# Altium schematic symbol library Capacitor.SchLib: 190 symbols (part 1 of 2)
Pins are listed as number, name and electrical type; pins without a type are passive.

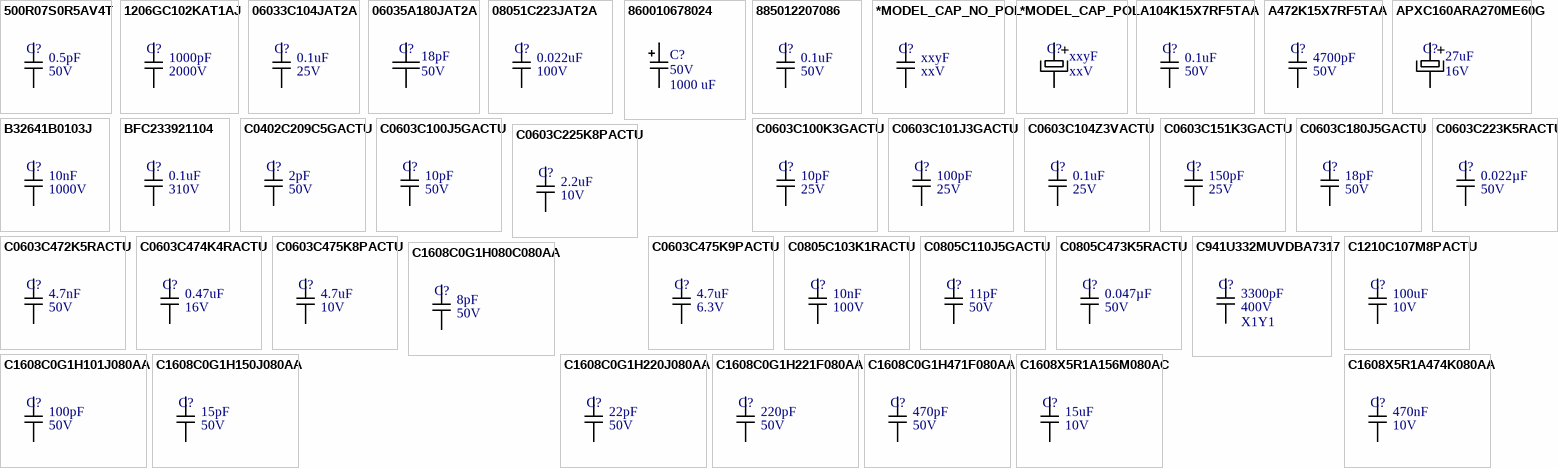
[diagram p0: symbols 500R07S0R5AV4T to C1608X5R1A474K080AA]

## 500R07S0R5AV4T
designator C?  value 0.5pF  Voltage: 50V  (hidden comment: 500R07S0R5AV4T)
CAP CER 0.50PF 50V NP0 0402; Manufacturer: Johanson Technology Inc.; Mount Type: SMD; Category: Ceramic; Dielectric: NP0; Supplier 1: Mouser; Supplier Part Number 1: 609-500R07S0R5AV4T; Supplier 2: Farnell; Supplier Part Number 2: 1650777; Supplier 3: Digi-Key; Supplier Part Number 3: 712-1247-1-ND
footprint C0402_HD (Chip Capacitor, Body 1.0x0.5mm, IPC High Density)
pins: 1, 2

## 1206GC102KAT1AJ
designator C?  value 1000pF  Voltage: 2000V  (hidden comment: 1206GC102KAT1AJ)
CAP CER 1000PF 2KV X7R 1206; Manufacturer: AVX Corporation; Mount Type: SMD; Category: Ceramic; Dielectric: X7R; Supplier 1: Digi-Key; Supplier Part Number 1: 478-9959-1-ND
footprint C1206_MD (Chip Capacitor, Body 3.2x1.6mm, IPC Medium Density)
pins: 1, 2

## 06033C104JAT2A
designator C?  value 0.1uF  Voltage: 25V  (hidden comment: 06033C104JAT2A)
CAP CER 0.1UF 25V 5% X7R 0603; Manufacturer: AVX; Mount Type: SMD; Category: Ceramic; Dielectric: X7R; Supplier 1: Digi-Key; Supplier 2: Allied; Supplier 3: Farnell; Supplier 4: Mouser; Supplier 5: Newark; Supplier Part Number 1: 478-3713-1-ND; Supplier Part Number 2: 70001398; Supplier Part Number 3: 1740614; Supplier Part Number 4: 581-06033C104JAT2A; Supplier Part Number 5: 55J3913
footprint C0603_MD (Chip Capacitor, Body 1.6x0.8mm, IPC Medium Density)
pins: 1, 2

## 06035A180JAT2A
designator C?  value 18pF  Voltage: 50V  (hidden comment: 06035A180JAT2A)
CAP CER 18PF 50V C0G/NP0 0603; Manufacturer: AVX Corporation; Mount Type: SMD; Category: Capacitor; Supplier 1: Newark; Supplier Part Number 1: 90R7639; Supplier 2: Newark; Supplier Part Number 2: 17C6481; Supplier 3: Farnell; Supplier Part Number 3: 1710190; Supplier 4: Digi-Key; Supplier Part Number 4: 478-1166-6-ND
footprint C0603_MD (Chip Capacitor, Body 1.6x0.8mm, IPC Medium Density)
pins: +, -

## 08051C223JAT2A
designator C?  value 0.022uF  Voltage: 100V  (hidden comment: 08051C223JAT2A)
CAP CER 0.022UF 100V X7R 0805; Manufacturer: AVX Corporation; Dielectric: XR7; Mount Type: SMD; Category: Ceramic Capacitor; Supplier 1: Arrow; Supplier Part Number 1: b1YfjW63iU57WBw10Mp1pG2qehBQvfzUihEl6jb0mZQ; Supplier 2: Digi-Key; Supplier Part Number 2: 478-3747-1-ND
footprint C0805_HD (Chip Capacitor, Body 2.0x1.3mm, IPC High Density)
pins: 1, 2

## 860010678024
designator C?  value 1000 uF  Voltage: 50V  (hidden comment: 860010678024)
1000µF 50V Aluminum Capacitors Radial, Can 2000 Hrs @ 85°C; Manufacturer: Wurth Electronics Inc.; Category: Aluminum Capacitors; Supplier Part Number 1: 732-8676-3-ND; Supplier 1: Dig-Key; Supplier 2: Newark; Supplier Part Number 2: 40Y3463; Supplier 3: Farnell; Supplier Part Number 3: 2465748; Supplier 4: Digi-Key; Supplier Part Number 4: 732-8676-1-ND
footprint CAP_EL_5X10MM (Capacitor Eletrolítico PTH)
pins: + 1, - 2

## 885012207086
designator C?  value 0.1uF  Voltage: 50V  (hidden comment: 885012207086)
CAP CER 1000PF 50V X7R 0805; Manufacturer: Wurth Electronics Inc.; Mount Type: SMD; Category: Capacitor; Dielectric: X7R; Supplier 1: Digi-Key; Supplier Part Number 1: 732-8068-6-ND; Supplier 2: Farnell; Supplier Part Number 2: 2495195RL
footprint C0805_HD (Chip Capacitor, Body 2.0x1.3mm, IPC High Density)
pins: 1, 2

## *MODEL_CAP_NO_POL
designator C?, comment value xxyF  Voltage: xxV  (hidden comment: Part Number)
Description; Mount Type: *; Manufacturer: *; Category: *; Dielectric: *
pins: 1, 2

## *MODEL_CAP_POL
designator C?, comment value xxyF  Voltage: xxV  (hidden comment: Part Number)
Description; Mount Type: *; Manufacturer: *; Category: *
pins: +, -

## A104K15X7RF5TAA
designator C?  value 0.1uF  Voltage: 50V  (hidden comment: A104K15X7RF5TAA)
CAP CER 0.1UF 50V X7R AXIAL; Manufacturer: Vishay BC Components; Mount Type: PTH; Category: Ceramic Capacitors; Dielectric: X7R; Supplier 1: Newark; Supplier 2: Allied; Supplier 3: Digi-Key; Supplier Part Number 1: 95C0843; Supplier Part Number 2: 70122957; Supplier Part Number 3: 1109PHCT-ND
footprint CAP_NP_DUAL_0.1_0.2 (Capacitor PTH)
pins: 1, 2

## A472K15X7RF5TAA
designator C?  value 4700pF  Voltage: 50V  (hidden comment: A472K15X7RF5TAA)
CAP CER 4700PF 50V X7R AXIAL; Manufacturer: Vishay BC Components; Mount Type: PTH; Category: Ceramic Capacitors; Dielectric: X7R; Supplier 1: Farnell; Supplier 2: Newark; Supplier 3: Mouser; Supplier 4: Digi-Key; Supplier Part Number 1: 3321903; Supplier Part Number 2: 95C0876; Supplier Part Number 3: 594-A472K15X7RF5TAA; Supplier Part Number 4: 1102PHCT-ND
footprint CAP_CER_DISK 0.1 (Capacitor PTH)
pins: 1, 2

## APXC160ARA270ME60G
designator C?  value 27uF  Voltage: 16V  (hidden comment: APXC160ARA270ME60G)
CAP ALUM 27UF 16V 20% SMD; Manufacturer: United Chemi-Con; Mount Type: SMD; Category: Aluminum; Supplier 1: Digi-Key; Supplier 2: Mouser; Supplier Part Number 1: 565-3127-1-ND; Supplier Part Number 2: 661-PXC16VC27RM
footprint CAP_EL_SMD_C (Capacitor Eletrolítico SMD Case C)
pins: +, -

## B32641B0103J
designator C?  value 10nF  Voltage: 1000V  (hidden comment: B32641B0103J)
CAP FILM 10000PF 5% 1000VDC RAD; Manufacturer: EPCOS (TDK); Dielectric: Polypropylene (PP), Metallized; Mount Type: PTH; Category: Film Capacitors; Supplier 1: Mouser; Supplier 2: Digi-Key; Supplier Part Number 1: 871-B32641B0103J; Supplier Part Number 2: 495-7120-ND
footprint CAP_CER_NP 5mm & 10mm-square (Capacitor PTH)
pins: 1, 2

## BFC233921104
designator C?  value 0.1uF  Voltage: 310V  (hidden comment: BFC233921104)
CAP FILM 100NF 20% 310VAC RAD; Manufacturer: Vishay BC Components; Dielectric: Polypropylene (PP), Metallized; Mount Type: PTH; Category: Class X2; Supplier 1: Mouser; Supplier 2: Newark; Supplier 3: Digi-Key; Supplier Part Number 1: 594-2222-339-21104; Supplier Part Number 2: 93K9994; Supplier Part Number 3: BC3033-ND
footprint CAP_CER_NP 0.4IN-square (Capacitor PTH)
pins: 1, 2

## C0402C209C5GACTU
designator C?  value 2pF  Voltage: 50V  (hidden comment: C0402C209C5GACTU)
CAP CER 2PF 50V NP0 0402; Manufacturer: Kemet; Mount Type: SMD; Category: Ceramic; Dielectric: NP0; Supplier 1: Mouser; Supplier Part Number 1: 80-C0402C209C5G; Supplier 2: Digi-Key; Supplier Part Number 2: 399-1004-1-ND; Supplier 3: Farnell; Supplier Part Number 3: 8771340
footprint C0402_HD (Chip Capacitor, Body 1.0x0.5mm, IPC High Density)
pins: 1, 2

## C0603C100J5GACTU
designator C?  value 10pF  Voltage: 50V  (hidden comment: C0603C100J5GACTU)
CAP CER 10PF 50V 5% NP0 0603; Manufacturer: Kemet; Mount Type: SMD; Category: Ceramic; Dielectric: NP0; Supplier 1: Allied; Supplier 2: Mouser; Supplier 3: Digi-Key; Supplier 4: Farnell; Supplier 5: Newark; Supplier Part Number 1: 70095443; Supplier Part Number 2: 80-C0603C100J5G; Supplier Part Number 3: 399-1049-1-ND; Supplier Part Number 4: 1273324; Supplier Part Number 5: 96K4754
footprint C0603_MD (Chip Capacitor, Body 1.6x0.8mm, IPC Medium Density)
pins: 1, 2

## C0603C100K3GACTU
designator C?  value 10pF  Voltage: 25V  (hidden comment: C0603C100K3GACTU)
CAP CER 10PF 25V 10% NP0 0603; Manufacturer: Kemet; Mount Type: SMD; Category: Ceramic; Dielectric: NP0; Supplier 1: Newark; Supplier 2: Mouser; Supplier 3: Digi-Key; Supplier Part Number 1: 34H3618; Supplier Part Number 2: 80-C0603C100K3G; Supplier Part Number 3: 399-8979-1-ND
footprint C0603_MD (Chip Capacitor, Body 1.6x0.8mm, IPC Medium Density)
pins: 1, 2

## C0603C101J3GACTU
designator C?  value 100pF  Voltage: 25V  (hidden comment: C0603C101J3GACTU)
CAP CER 100PF 25V 5% NP0 0603; Manufacturer: Kemet; Mount Type: SMD; Category: Ceramic; Dielectric: NP0; Supplier 1: Newark; Supplier 2: Mouser; Supplier 3: Digi-Key; Supplier Part Number 1: 65H4351; Supplier Part Number 2: 80-C0603C101J3G; Supplier Part Number 3: 399-8980-1-ND
footprint C0603_MD (Chip Capacitor, Body 1.6x0.8mm, IPC Medium Density)
pins: 1, 2

## C0603C104Z3VACTU
designator C?  value 0.1uF  Voltage: 25V  (hidden comment: C0603C104Z3VACTU)
CAP CER 0.1UF 25V Y5V 0603; Manufacturer: Kemet; Mount Type: SMD; Category: Ceramic; Dielectric: Y5V; Supplier 1: Newark; Supplier 2: Mouser; Supplier 3: Farnell; Supplier 4: Allied; Supplier 5: Digi-Key; Supplier Part Number 1: 31C9013; Supplier Part Number 2: 80-C0603C104Z3V; Supplier Part Number 3: 4532004; Supplier Part Number 4: 70095465; Supplier Part Number 5: 399-1100-1-ND
footprint C0603_MD (Chip Capacitor, Body 1.6x0.8mm, IPC Medium Density)
pins: 1, 2

## C0603C151K3GACTU
designator C?  value 150pF  Voltage: 25V  (hidden comment: C0603C151K3GACTU)
CAP CER 150PF 25V C0G/NP0 0603; Manufacturer: Kemet; Dielectric: NP0; Mount Type: SMD; Category: Ceramic; Supplier 1: Digi-Key; Supplier Part Number 1: 399-9008-1-ND
footprint C0603_MD (Chip Capacitor, Body 1.6x0.8mm, IPC Medium Density)
pins: 1, 2

## C0603C180J5GACTU
designator C?  value 18pF  Voltage: 50V  (hidden comment: C0603C180J5GACTU)
CAP CER 18PF 50V 5% NP0 0603; Manufacturer: Kemet; Mount Type: SMD; Category: Ceramic; Dielectric: NP0; Supplier 1: Newark; Supplier Part Number 1: 64K2845; Supplier 2: Mouser; Supplier Part Number 2: 80-C0603C180J5G; Supplier 3: Digi-Key; Supplier Part Number 3: 399-1052-1-ND; Supplier 4: Farnell; Supplier Part Number 4: 1414620
footprint C0603_MD (Chip Capacitor, Body 1.6x0.8mm, IPC Medium Density)
pins: 1, 2

## C0603C223K5RACTU
designator C?  value 0.022µF  Voltage: 50V  (hidden comment: C0603C223K5RACTU)
CAP CER 0.022UF 50V X7R 0603; Manufacturer: KEMET; Mount Type: SMD; Category: Ceramic; Dielectric: X7R; Supplier 1: Arrow; Supplier Part Number 1: 1pIGBirKaRTPwkmaTgv2M-f7VSFvtsA04s_dGa-xGls; Supplier 2: Digi-Key; Supplier Part Number 2: 399-1280-1-ND; Supplier 3: Newark; Supplier Part Number 3: 03C3260; Supplier 4: Farnell; Supplier Part Number 4: 1414625
footprint C0603_MD (Chip Capacitor, Body 1.6x0.8mm, IPC Medium Density)
pins: 1, 2

## C0603C225K8PACTU
designator C?  value 2.2uF  Voltage: 10V  (hidden comment: C0603C225K8PACTU)
CAP CER 2.2UF 10V X5R 0603; Manufacturer: KEMET; Mount Type: SMD; Category: Ceramic; Dielectric: X5R; Supplier 1: Farnell; Supplier Part Number 1: 2392247; Supplier 2: Digi-Key; Supplier Part Number 2: 399-4911-1-ND; Supplier 3: Allied; Supplier Part Number 3: 70095492; Supplier 4: Newark; Supplier Part Number 4: 70K9095
footprint C0603_MD (Chip Capacitor, Body 1.6x0.8mm, IPC Medium Density)
pins: 1, 2

## C0603C472K5RACTU
designator C?  value 4.7nF  Voltage: 50V  (hidden comment: C0603C472K5RACTU)
CAP CER 4700PF 50V 10% X7R 0603; Manufacturer: Kemet; Mount Type: SMD; Category: Ceramic; Dielectric: X7R; Supplier 1: Digi-Key; Supplier 2: Allied; Supplier 3: Farnell; Supplier 4: Mouser; Supplier 5: Newark; Supplier Part Number 1: 399-1087-1-ND; Supplier Part Number 2: 70095516; Supplier Part Number 3: 1833875; Supplier Part Number 4: 80-C0603C472K5R; Supplier Part Number 5: 88W4179
footprint C0603_MD (Chip Capacitor, Body 1.6x0.8mm, IPC Medium Density)
pins: 1, 2

## C0603C474K4RACTU
designator C?  value 0.47uF  Voltage: 16V  (hidden comment: C0603C474K4RACTU)
CAP CER 0.47UF 16V X7R 0603; Manufacturer: KEMET; Mount Type: SMD; Category: Ceramic; Dielectric: X7R; Supplier 1: Digikey; Supplier Part Number 1: 399-4922-1-ND; Supplier 2: Newark; Supplier Part Number 2: 32K4764; Supplier 3: Farnell; Supplier Part Number 3: 1414644RL; Supplier 4: Arrow; Supplier Part Number 4: C0603C474K4RACTU**MULT1
footprint C0603_MD (Chip Capacitor, Body 1.6x0.8mm, IPC Medium Density)
pins: 1, 2

## C0603C475K8PACTU
designator C?  value 4.7uF  Voltage: 10V  (hidden comment: C0603C475K8PACTU)
CAP CER 4.7UF 10V 10% X5R 0603; Manufacturer: Kemet; Mount Type: SMD; Category: Ceramic; Dielectric: X5R; Supplier 1: Allied; Supplier 2: Mouser; Supplier 3: Newark; Supplier 4: Digi-Key; Supplier 5: Farnell; Supplier Part Number 1: 70096227; Supplier Part Number 2: 80-C0603C475K8P; Supplier Part Number 3: 14N2177; Supplier Part Number 4: 399-5503-1-ND; Supplier Part Number 5: 1572625RL
footprint C0603_MD (Chip Capacitor, Body 1.6x0.8mm, IPC Medium Density)
pins: 1, 2

## C0603C475K9PACTU
designator C?  value 4.7uF  Voltage: 6.3V  (hidden comment: C0603C475K9PACTU)
CAP CER 4.7UF 6.3V X5R 0603; Manufacturer: KEMET; Mount Type: SMD; Category: Ceramic; Dielectric: X5R
footprint C0603_MD (Chip Capacitor, Body 1.6x0.8mm, IPC Medium Density)
pins: 1, 2

## C0805C103K1RACTU
designator C?  value 10nF  Voltage: 100V  (hidden comment: C0805C103K1RACTU)
10000pF ±10% 100V X7R Ceramic Capacitor 0805; Manufacturer: Kemet; Mount Type: SMD; Category: Ceramic; Dielectric: X7R; Supplier 1: Digi-Key; Supplier 2: Allied; Supplier 3: Arrow; Supplier Part Number 1: 399-1159-1-ND; Supplier Part Number 2: 70095549; Supplier Part Number 3: V84PRHYJWYbxb_q0g1OWdNRr6W-bXtbKqADhWS6l3P0
footprint C0805_MD (Chip Capacitor, Body 2.0x1.3mm, IPC Medium Density)
pins: 1, 2

## C0805C110J5GACTU
designator C?  value 11pF  Voltage: 50V  (hidden comment: C0805C110J5GACTU)
CAP CER 11PF 50V C0G/NP0 0805; Manufacturer: KEMET; Mount Type: SMD; Category: Ceramic Capacitor; Dielectric: CER; Supplier 1: Arrow; Supplier Part Number 1: qNqIfjjZX98MDQ3dOrbsh5TPwZB3ZeJsEpMGPWt1vK8; Supplier 2: Farnell; Supplier Part Number 2: 2678326; Supplier 3: Digi-Key; Supplier Part Number 3: 399-9164-1-ND
footprint C0805_HD (Chip Capacitor, Body 2.0x1.3mm, IPC High Density)
pins: 1, 2

## C0805C473K5RACTU
designator C?  value 0.047µF  Voltage: 50V  (hidden comment: C0805C473K5RACTU)
CAP CER 0.047UF 50V X7R 0805; Manufacturer: KEMET; Mount Type: SMD; Category: Cap Ceramic; Dielectric: X7R; Supplier 1: Digi-Key; Supplier Part Number 1: 399-1166-6-ND; Supplier 2: Arrow; Supplier Part Number 2: Xkup9lLMWZrCqvJj0ZB_5qYvdddGEKg_pzUdNIQIV_s
footprint C0805_HD (Chip Capacitor, Body 2.0x1.3mm, IPC High Density)
pins: 1, 2

## C941U332MUVDBA7317
designator C?  value 3300pF  Voltage: 400V  Class: X1Y1  (hidden comment: C941U332MUVDBA7317)
CAP CER 3300PF 400VAC Y5V RADIAL; Manufacturer: Kemet; Mount Type: PTH; Category: Ceramic/Safety; Dielectric: Y5V; Supplier 1: Farnell; Supplier 2: Mouser; Supplier 3: Digi-Key; Supplier Part Number 1: 2440229; Supplier Part Number 2: 80-C941U332MUVDBAP; Supplier Part Number 3: 399-9500-1-ND
footprint CAP_CER_DISK 0.4 - skinny (Capacitor PTH)
pins: 1, 2

## C1210C107M8PACTU
designator C?  value 100uF  Voltage: 10V  (hidden comment: C1210C107M8PACTU)
CAP CER 100UF 10V 20% X5R 1210; Manufacturer: Kemet; Mount Type: SMD; Category: Ceramic; Dielectric: X5R; Supplier 1: Digi-Key; Supplier Part Number 1: 399-11631-1-ND; Supplier 2: Farnell; Supplier Part Number 2: 2442786; Supplier 3: Mouser; Supplier Part Number 3: 80-C1210C107M8P; Supplier 4: Newark; Supplier Part Number 4: 87X8674
footprint C1210_MD (Chip Capacitor, Body 3.2x2,5mm, IPC Medium Density)
pins: 1, 2

## C1608C0G1H080C080AA
designator C?  value 8pF  Voltage: 50V  (hidden comment: C1608C0G1H080C080AA)
CAP CER 8PF 50V NP0 0603; Manufacturer: TDK Corporation; Mount Type: SMD; Category: Ceramic; Dielectric: NP0; Supplier 1: Newark; Supplier 2: Mouser; Supplier 3: Digi-Key; Supplier Part Number 1: 87R3457; Supplier Part Number 2: 810-C1608C0G1H080C; Supplier Part Number 3: 445-5042-1-ND
footprint C0603_MD (Chip Capacitor, Body 1.6x0.8mm, IPC Medium Density)
pins: 1, 2

## C1608C0G1H101J080AA
designator C?  value 100pF  Voltage: 50V  (hidden comment: C1608C0G1H101J080AA)
CAP CER 100PF 50V 5% C0G 0603; Manufacturer: TDK Corporation; Mount Type: SMD; Category: Ceramic; Dielectric: C0G; Supplier 1: Newark; Supplier 2: Digi-Key; Supplier 3: Farnell; Supplier 4: Mouser; Supplier Part Number 1: 90R7631; Supplier Part Number 2: 445-1281-1-ND; Supplier Part Number 3: 1844160; Supplier Part Number 4: 810-C1608C0G1H101J
footprint C0603_MD (Chip Capacitor, Body 1.6x0.8mm, IPC Medium Density)
pins: 1, 2

## C1608C0G1H150J080AA
designator C?  value 15pF  Voltage: 50V  (hidden comment: C1608C0G1H150J080AA)
CAP CER 15PF 50V 5% C0G 0603; Manufacturer: TDK Corporation; Mount Type: SMD; Category: Ceramic; Dielectric: *; Supplier 1: Digi-Key; Supplier Part Number 1: 445-1271-1-ND
footprint C0603_MD (Chip Capacitor, Body 1.6x0.8mm, IPC Medium Density)
pins: 1, 2

## C1608C0G1H220J080AA
designator C?  value 22pF  Voltage: 50V  (hidden comment: C1608C0G1H220J080AA)
CAP CER 22PF 50V 5% NP0 0603; Manufacturer: TDK; Mount Type: SMD; Category: Ceramic; Dielectric: NP0; Supplier 1: Mouser; Supplier 2: Newark; Supplier 3: Farnell; Supplier 4: Digi-Key; Supplier Part Number 1: 810-C1608C0G1H220J; Supplier Part Number 2: 90R7643; Supplier Part Number 3: 1856144; Supplier Part Number 4: 445-1273-1-ND
footprint C0603_MD (Chip Capacitor, Body 1.6x0.8mm, IPC Medium Density)
pins: 1, 2

## C1608C0G1H221F080AA
designator C?  value 220pF  Voltage: 50V  (hidden comment: C1608C0G1H221F080AA)
CAP CER 220PF 50V 1% C0G 0603; Manufacturer: TDK Corporation; Mount Type: SMD; Category: Ceramic; Dielectric: *; Supplier 1: Digi-Key; Supplier Part Number 1: 445-5369-1-ND
footprint C0603_MD (Chip Capacitor, Body 1.6x0.8mm, IPC Medium Density)
pins: 1, 2

## C1608C0G1H471F080AA
designator C?  value 470pF  Voltage: 50V  (hidden comment: C1608C0G1H471F080AA)
CAP CER 470PF 50V 1% C0G 0603; Manufacturer: TDK Corporation; Mount Type: SMD; Category: Ceramic; Dielectric: *; Supplier 1: Digi-Key; Supplier Part Number 1: 445-5370-1-ND
footprint C0603_MD (Chip Capacitor, Body 1.6x0.8mm, IPC Medium Density)
pins: 1, 2

## C1608X5R1A156M080AC
designator C?  value 15uF  Voltage: 10V  (hidden comment: C1608X5R1A156M080AC)
CAP CER 15UF 10V X5R 0603; Manufacturer: TDK Corporation; Mount Type: SMD; Category: Ceramic; Dielectric: X5R
footprint C0603_MD (Chip Capacitor, Body 1.6x0.8mm, IPC Medium Density)
pins: 1, 2

## C1608X5R1A474K080AA
designator C?  value 470nF  Voltage: 10V  (hidden comment: C1608X5R1A474K080AA)
CAP CER 0.47UF 10V 10% X5R 0603; Manufacturer: TDK; Mount Type: SMD; Category: Ceramic; Dielectric: X5R; Supplier 1: Digi-Key; Supplier 2: Farnell; Supplier 3: Mouser; Supplier 4: Newark; Supplier Part Number 1: 445-1320-1-ND; Supplier Part Number 2: 1844207; Supplier Part Number 3: 810-C1608X5R1A474K; Supplier Part Number 4: 90R7674
footprint C0603_MD (Chip Capacitor, Body 1.6x0.8mm, IPC Medium Density)
pins: 1, 2

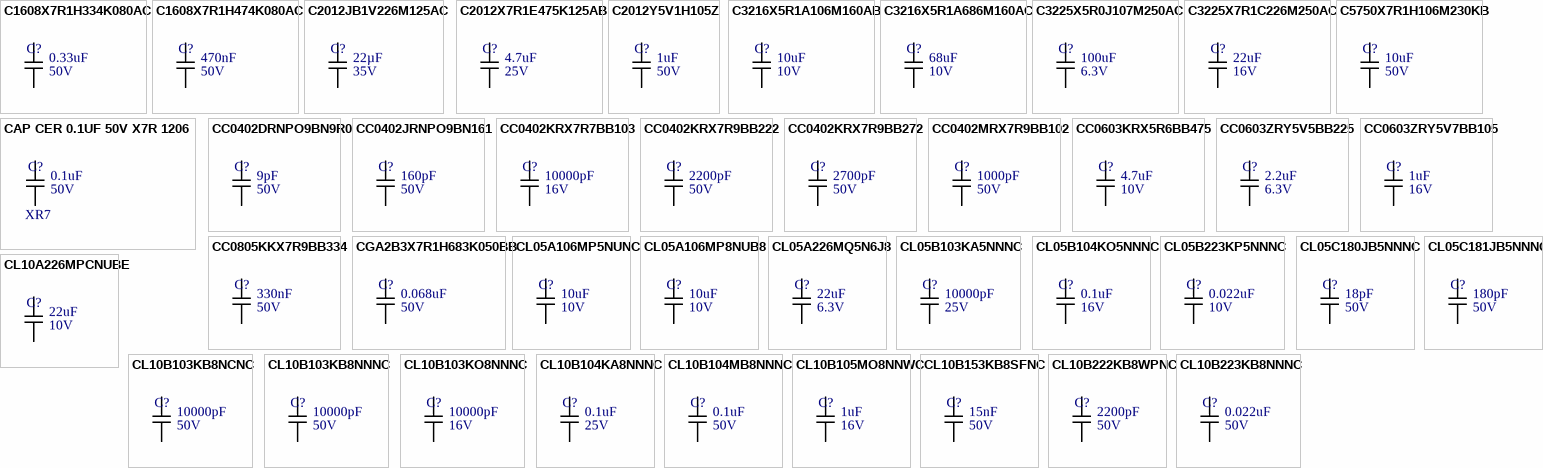
[diagram p1: symbols C1608X7R1H334K080AC to CL10B223KB8NNNC]

## C1608X7R1H334K080AC
designator C?  value 0.33uF  Voltage: 50V  (hidden comment: C1608X7R1H334K080AC)
CAP CER 0.33UF 50V X7R 0603; Manufacturer: TDK Corporation; Mount Type: SMD; Category: Ceramic; Dielectric: X7R; Supplier 1: Digi-Key; Supplier Part Number 1: 445-5950-1-ND; Supplier 2: Farnell; Supplier Part Number 2: 2346907; Supplier 3: Newark; Supplier Part Number 3: 12T1891; Supplier 4: Arrow; Supplier Part Number 4: tqInW7TVXEJOurYKJu6AUWIWQ6PExte3UtE3X-pi0jYZVywxIBNyoAQstvnyfZZ0; Supplier 5: Avnet; Supplier Part Number 5: C1608X7R1H334K080AC
footprint C0603_MD (Chip Capacitor, Body 1.6x0.8mm, IPC Medium Density)
pins: 1, 2

## C1608X7R1H474K080AC
designator C?  value 470nF  Voltage: 50V  (hidden comment: C1608X7R1H474K080AC)
CAP CER 0.47UF 50V 10% X7R 0603; Manufacturer: TDK Corporation; Mount Type: SMD; Category: *; Dielectric: *; Supplier 1: Digi-Key; Supplier Part Number 1: 445-5952-1-ND
footprint C0603_MD (Chip Capacitor, Body 1.6x0.8mm, IPC Medium Density)
pins: 1, 2

## C2012JB1V226M125AC
designator C?  value 22µF  Voltage: 35V  (hidden comment: C2012JB1V226M125AC)
CAP CER 22UF 35V JB 0805; Manufacturer: TDK Corporation; Mount Type: SMD; Category: Cap Ceramic; Dielectric: JB; Supplier 1: Digi-Key; Supplier Part Number 1: 445-11527-1-ND
footprint C0805_HD (Chip Capacitor, Body 2.0x1.3mm, IPC High Density)
pins: 1, 2

## C2012X7R1E475K125AB
designator C?  value 4.7uF  Voltage: 25V  (hidden comment: C2012X7R1E475K125AB)
CAP CER 4.7UF 25V X7R 0805; Manufacturer: TDK Corporation; Mount Type: SMD; Category: Ceramic; Dielectric: X7R; Supplier 1: Avnet; Supplier Part Number 1: C2012X7R1E475K125AB; Supplier 2: Newark; Supplier Part Number 2: 04X3287; Supplier 3: Farnell; Supplier Part Number 3: 2346943; Supplier 4: Digi-Key; Supplier Part Number 4: 445-5972-1-ND
footprint C0805_MD (Chip Capacitor, Body 2.0x1.3mm, IPC Medium Density)
pins: 1, 2

## C2012Y5V1H105Z
designator C?  value 1uF  Voltage: 50V  (hidden comment: C2012Y5V1H105Z)
CAP CER 1UF 50V Y5V 0805; Manufacturer: TDK; Mount Type: SMD; Category: Ceramic; Dielectric: Y5V; Supplier 1: Newark; Supplier 2: Arrow; Supplier 3: Mouser; Supplier 4: Farnell; Supplier 5: Digi-Key; Supplier Part Number 1: 90R7769; Supplier Part Number 2: 48409501S8390777N1165; Supplier Part Number 3: 810-C2012Y5V1H105Z-2; Supplier Part Number 4: 1844296; Supplier Part Number 5: 445-3463-6-ND
footprint C0805_MD (Chip Capacitor, Body 2.0x1.3mm, IPC Medium Density)
footprint C0805_HD (Chip Capacitor, Body 2.0x1.3mm, IPC High Density)
pins: 1, 2

## C3216X5R1A106M160AB
designator C?  value 10uF  Voltage: 10V  (hidden comment: C3216X5R1A106M160AB)
CAP CER 10UF 10V 20% X5R 1206; Manufacturer: TDK; Mount Type: SMD; Category: Ceramic; Dielectric: X5R; Supplier 1: Digi-Key; Supplier 2: Newark; Supplier 3: Mouser; Supplier Part Number 1: 445-1387-1-ND; Supplier Part Number 2: 90R7779; Supplier Part Number 3: 810-C3216X5R1A106M
footprint C1206_MD (Chip Capacitor, Body 3.2x1.6mm, IPC Medium Density)
pins: 1, 2

## C3216X5R1A686M160AC
designator C?  value 68uF  Voltage: 10V  (hidden comment: C3216X5R1A686M160AC)
CAP CER 68UF 10V X5R 1206; Manufacturer: TDK Corporation; Mount Type: SMD; Category: Ceramic; Dielectric: X5R; Supplier 1: Arrow; Supplier Part Number 1: 0I_WNwWqGVcE6w5VeF1xzJgtIScThp7bO59ciP41ABoZVywxIBNyoAQstvnyfZZ0; Supplier 2: Digi-Key; Supplier Part Number 2: 445-14673-1-ND; Supplier 3: Newark; Supplier Part Number 3: 11X2726; Supplier 4: Digi-Key; Supplier Part Number 4: 445-14673-6-ND
footprint C1206_MD (Chip Capacitor, Body 3.2x1.6mm, IPC Medium Density)
pins: 1, 2

## C3225X5R0J107M250AC
designator C?  value 100uF  Voltage: 6.3V  (hidden comment: C3225X5R0J107M250AC)
CAP CER 100UF 6.3V 20% X5R 1210; Manufacturer: TDK; Mount Type: SMD; Category: Ceramic; Dielectric: X5R; Supplier 1: Mouser; Supplier 2: Newark; Supplier 3: Digi-Key; Supplier 4: Farnell; Supplier Part Number 1: 810-C3225X5R0J107M; Supplier Part Number 2: 90R7817; Supplier Part Number 3: 445-1437-1-ND; Supplier Part Number 4: 1907361
footprint C1210_MD (Chip Capacitor, Body 3.2x2,5mm, IPC Medium Density)
pins: 1, 2

## C3225X7R1C226M250AC
designator C?  value 22uF  Voltage: 16V  (hidden comment: C3225X7R1C226M250AC)
CAP CER 22UF 16V 20% X7R 1210; Manufacturer: TDK; Mount Type: SMD; Category: Ceramic; Dielectric: X7R; Supplier 1: Newark; Supplier 2: Mouser; Supplier 3: Digi-Key; Supplier 4: Farnell; Supplier Part Number 1: 90R7829; Supplier Part Number 2: 810-C3225X7R1C226M; Supplier Part Number 3: 445-3955-1-ND; Supplier Part Number 4: 1844357
footprint C1210_MD (Chip Capacitor, Body 3.2x2,5mm, IPC Medium Density)
pins: 1, 2

## C5750X7R1H106M230KB
designator C?  value 10uF  Voltage: 50V  (hidden comment: C5750X7R1H106M230KB)
CAP CER 10UF 50V 20% X7R 5750; Manufacturer: TDK Corporation; Mount Type: SMD; Category: Ceramic; Dielectric: X7R; Supplier 1: Digi-Key; Supplier 2: Mouser; Supplier 3: Farnell; Supplier 4: Newark; Supplier Part Number 1: 445-1454-1-ND; Supplier Part Number 2: 810-C5750X7R1H106M; Supplier Part Number 3: 1843189; Supplier Part Number 4: 90R7872
footprint C2220_MD
pins: 1, 2

## CAP CER 0.1UF 50V X7R 1206
designator C?, comment value 0.1uF  Dielectric: XR7  Voltage: 50V  (hidden comment: C1206C104K5RAC7867)
CAP CER 0.1UF 50V X7R 1206; Manufacturer: KEMET; Mount Type: SMD; Category: Ceramic Capacitor; Supplier 1: Farnell; Supplier Part Number 1: 1759361; Supplier 2: Digi-Key; Supplier Part Number 2: 399-1249-1-ND; Supplier 3: Farnell; Supplier Part Number 3: 2665332
footprint C1206_MD (Chip Capacitor, Body 3.2x1.6mm, IPC Medium Density)
pins: 1, 2

## CC0402DRNPO9BN9R0
designator C?  value 9pF  Voltage: 50V  (hidden comment: CC0402DRNPO9BN9R0)
CAP CER 9PF 50V NPO 0402; Manufacturer: Yageo; Dielectric: C0G; Mount Type: SMD; Category: Ceramic
footprint C0402_MD (Chip Capacitor, Body 1.0x0.5mm, IPC Medium Density)
pins: 1, 2

## CC0402JRNPO9BN161
designator C?  value 160pF  Voltage: 50V  (hidden comment: CC0402JRNPO9BN161)
CAP CER 160PF 50V NPO 0402; Manufacturer: Yageo; Dielectric: C0G; Mount Type: SMD; Category: Ceramic
footprint C0402_MD (Chip Capacitor, Body 1.0x0.5mm, IPC Medium Density)
pins: 1, 2

## CC0402KRX7R7BB103
designator C?  value 10000pF  Voltage: 16V  (hidden comment: CC0402KRX7R7BB103)
CAP CER 10000PF 16V X7R 0402; Manufacturer: Yageo; Mount Type: SMD; Category: Ceramic; Dielectric: X7R
footprint C0402_MD (Chip Capacitor, Body 1.0x0.5mm, IPC Medium Density)
pins: 1, 2

## CC0402KRX7R9BB222
designator C?  value 2200pF  Voltage: 50V  (hidden comment: CC0402KRX7R9BB222)
CAP CER 2200PF 50V X7R 0402; Manufacturer: Yageo; Mount Type: SMD; Category: Ceramic; Dielectric: X7R
footprint C0402_MD (Chip Capacitor, Body 1.0x0.5mm, IPC Medium Density)
pins: 1, 2

## CC0402KRX7R9BB272
designator C?  value 2700pF  Voltage: 50V  (hidden comment: CC0402KRX7R9BB272)
CAP CER 2700PF 50V X7R 0402; Manufacturer: Yageo; Mount Type: SMD; Category: Ceramic; Dielectric: X7R
footprint C0402_MD (Chip Capacitor, Body 1.0x0.5mm, IPC Medium Density)
pins: 1, 2

## CC0402MRX7R9BB102
designator C?  value 1000pF  Voltage: 50V  (hidden comment: CC0402MRX7R9BB102)
CAP CER 1000PF 50V X7R 0402; Manufacturer: Yageo; Mount Type: SMD; Category: Ceramic; Dielectric: X7R
footprint C0402_MD (Chip Capacitor, Body 1.0x0.5mm, IPC Medium Density)
pins: 1, 2

## CC0603KRX5R6BB475
designator C?  value 4.7uF  Voltage: 10V  (hidden comment: CC0603KRX5R6BB475)
CAP CER 4.7UF 10V 10% X5R 0603; Manufacturer: Yageo; Mount Type: SMD; Category: *; Dielectric: *; Supplier 1: Digi-Key; Supplier Part Number 1: 311-1455-1-ND
footprint C0603_MD (Chip Capacitor, Body 1.6x0.8mm, IPC Medium Density)
pins: 1, 2

## CC0603ZRY5V5BB225
designator C?  value 2.2uF  Voltage: 6.3V  (hidden comment: CC0603ZRY5V5BB225)
CAP CER 2.2UF 6.3V Y5V 0603; Manufacturer: Yageo; Mount Type: SMD; Category: Ceramic; Dielectric: Y5V; Supplier 1: Newark; Supplier 2: Mouser; Supplier 3: Farnell; Supplier 4: Digi-Key; Supplier Part Number 1: 68R4825; Supplier Part Number 2: 603-CC603ZRY5V5BB225; Supplier Part Number 3: 1817933; Supplier Part Number 4: 311-1452-1-ND
footprint C0603_MD (Chip Capacitor, Body 1.6x0.8mm, IPC Medium Density)
pins: 1, 2

## CC0603ZRY5V7BB105
designator C?  value 1uF  Voltage: 16V  (hidden comment: CC0603ZRY5V7BB105)
CAP CER 1UF 16V Y5V 0603; Manufacturer: Yageo; Mount Type: SMD; Category: Ceramic; Dielectric: Y5V; Supplier 1: Newark; Supplier 2: Mouser; Supplier 3: Farnell; Supplier 4: Digi-Key; Supplier Part Number 1: 68R4831; Supplier Part Number 2: 603-CC603ZRY5V7BB105; Supplier Part Number 3: 1817937; Supplier Part Number 4: 311-1372-1-ND
footprint C0603_MD (Chip Capacitor, Body 1.6x0.8mm, IPC Medium Density)
pins: 1, 2

## CC0805KKX7R9BB334
designator C?  value 330nF  Voltage: 50V  (hidden comment: CC0805KKX7R9BB334)
CAP CER 0.33UF 50V X7R 0805; Manufacturer: Yageo; Mount Type: SMD; Category: Ceramic Capacitor; Dielectric: X7R; Supplier 1: Digi-Key; Supplier Part Number 1: 311-1888-1-ND
footprint C0805_HD (Chip Capacitor, Body 2.0x1.3mm, IPC High Density)
pins: 1, 2

## CGA2B3X7R1H683K050BB
designator C?  value 0.068uF  Voltage: 50V  (hidden comment: CGA2B3X7R1H683K050BB)
CAP CER 0.068UF 50V X7R 0402; Manufacturer: TDK Corporation; Mount Type: SMD; Category: Ceramic; Dielectric: X7R
footprint C0402_MD (Chip Capacitor, Body 1.0x0.5mm, IPC Medium Density)
pins: 1, 2

## CL05A106MP5NUNC
designator C?  value 10uF  Voltage: 10V  (hidden comment: CL05A106MP5NUNC)
CAP CER 10UF 10V X5R 0402; Manufacturer: Samsung Electro-Mechanics; Mount Type: SMD; Category: Ceramic; Dielectric: X5R
footprint C0402_MD (Chip Capacitor, Body 1.0x0.5mm, IPC Medium Density)
pins: 1, 2

## CL05A106MP8NUB8
designator C?  value 10uF  Voltage: 10V  (hidden comment: CL05A106MP8NUB8)
CAP CER 10UF 10V X5R 0402; Manufacturer: Samsung Electro-Mechanics America, Inc.; Mount Type: SMD; Category: Ceramic; Dielectric: X5R; Supplier 1: Arrow; Supplier Part Number 1: CL05A106MP8NUB8; Supplier 2: Digikey; Supplier Part Number 2: 1276-6830-1-ND
footprint C0402_MD (Chip Capacitor, Body 1.0x0.5mm, IPC Medium Density)
pins: 1, 2

## CL05A226MQ5N6J8
designator C?  value 22uF  Voltage: 6.3V  (hidden comment: CL05A226MQ5N6J8)
CAP CER 22UF 6.3V X5R 0402; Manufacturer: Samsung Electro-Mechanics; Mount Type: SMD; Category: Ceramic; Dielectric: X5R
footprint C0402_MD (Chip Capacitor, Body 1.0x0.5mm, IPC Medium Density)
pins: 1, 2

## CL05B103KA5NNNC
designator C?  value 10000pF  Voltage: 25V  (hidden comment: CL05B103KA5NNNC)
CAP CER 10000PF 25V X7R 0402; Manufacturer: Samsung Electro-Mechanics America, Inc.; Mount Type: SMD; Category: Ceramic; Dielectric: X7R; Supplier 1: Digikey; Supplier Part Number 1: 1276-1057-1-ND; Supplier 2: Arrow; Supplier Part Number 2: CL05B103KA5NNNC**MULT1
footprint C0402_MD (Chip Capacitor, Body 1.0x0.5mm, IPC Medium Density)
pins: 1, 2

## CL05B104KO5NNNC
designator C?  value 0.1uF  Voltage: 16V  (hidden comment: CL05B104KO5NNNC)
CAP CER 0.1UF 16V X7R 0402; Manufacturer: Samsung Electro-Mechanics America, Inc.; Mount Type: SMD; Category: Ceramic; Dielectric: X7R; Supplier 1: Digikey; Supplier Part Number 1: 1276-1001-1-ND; Supplier 2: Arrow; Supplier Part Number 2: CL05B104KO5NNNC**MULT1
footprint C0402_MD (Chip Capacitor, Body 1.0x0.5mm, IPC Medium Density)
pins: 1, 2

## CL05B223KP5NNNC
designator C?  value 0.022uF  Voltage: 10V  (hidden comment: CL05B223KP5NNNC)
CAP CER 0.022UF 10V X7R 0402; Manufacturer: Samsung Electro-Mechanics; Mount Type: SMD; Category: Ceramic; Dielectric: X7R
footprint C0402_MD (Chip Capacitor, Body 1.0x0.5mm, IPC Medium Density)
pins: 1, 2

## CL05C180JB5NNNC
designator C?  value 18pF  Voltage: 50V  (hidden comment: CL05C180JB5NNNC)
CAP CER 18PF 50V C0G/NP0 0402; Manufacturer: Samsung Electro-Mechanics America, Inc.; Dielectric: C0G; Mount Type: SMD; Category: Ceramic; Supplier 1: Digikey; Supplier Part Number 1: 1276-1140-1-ND; Supplier 2: Arrow; Supplier Part Number 2: CL05C180JB5NNNC
footprint C0402_MD (Chip Capacitor, Body 1.0x0.5mm, IPC Medium Density)
pins: 1, 2

## CL05C181JB5NNNC
designator C?  value 180pF  Voltage: 50V  (hidden comment: CL05C181JB5NNNC)
CAP CER 180PF 50V C0G/NP0 0402; Manufacturer: Samsung Electro-Mechanics; Dielectric: C0G; Mount Type: SMD; Category: Ceramic
footprint C0402_MD (Chip Capacitor, Body 1.0x0.5mm, IPC Medium Density)
pins: 1, 2

## CL10A226MPCNUBE
designator C?  value 22uF  Voltage: 10V  (hidden comment: CL10A226MPCNUBE)
CAP CER 22UF 10V X5R 0603; Manufacturer: Samsung Electro-Mechanics America, Inc.; Mount Type: SMD; Category: Ceramic; Dielectric: X5R; Supplier 1: Digikey; Supplier Part Number 1: 1276-6504-1-ND
footprint C0603_MD (Chip Capacitor, Body 1.6x0.8mm, IPC Medium Density)
pins: 1, 2

## CL10B103KB8NCNC
designator C?  value 10000pF  Voltage: 50V  (hidden comment: CL10B103KB8NCNC)
CAP CER 10000PF 50V X7R 0603; Manufacturer: Samsung Electro-Mechanics America, Inc.; Mount Type: SMD; Category: Ceramic; Dielectric: X7R; Supplier 1: Digi-Key; Supplier Part Number 1: 1276-1921-1-ND; Supplier 2: Newark; Supplier Part Number 2: 88W4176; Supplier 3: Farnell; Supplier Part Number 3: 2332638
footprint C0603_MD (Chip Capacitor, Body 1.6x0.8mm, IPC Medium Density)
pins: 1, 2

## CL10B103KB8NNNC
designator C?  value 10000pF  Voltage: 50V  (hidden comment: CL10B103KB8NNNC)
10000pF 50V Ceramic Capacitor X7R 0603; Manufacturer: Samsung Electro-Mechanics America, Inc.; Mount Type: SMD; Category: Ceramic; Dielectric: X7R; Supplier 1: Digi-Key; Supplier Part Number 1: 1276-1009-1-ND; Supplier 2: Newark; Supplier Part Number 2: 30C5334; Supplier 3: Farnell; Supplier Part Number 3: 2253099
footprint C0603_MD (Chip Capacitor, Body 1.6x0.8mm, IPC Medium Density)
pins: 1, 2

## CL10B103KO8NNNC
designator C?  value 10000pF  Voltage: 16V  (hidden comment: CL10B103KO8NNNC)
CAP CER 10000PF 16V 10% X7R 0603; Manufacturer: Samsung Electro-Mechanics America, Inc; Mount Type: SMD; Category: Ceramic; Dielectric: X7R; Supplier 1: Farnell; Supplier 2: Digi-Key; Supplier Part Number 1: 2280661; Supplier Part Number 2: 1276-1926-1-ND
footprint C0603_MD (Chip Capacitor, Body 1.6x0.8mm, IPC Medium Density)
pins: 1, 2

## CL10B104KA8NNNC
designator C?  value 0.1uF  Voltage: 25V  (hidden comment: CL10B104KA8NNNC)
CAP CER 0.1UF 25V X7R 0603; Manufacturer: Samsung Electro-Mechanics America, Inc.; Mount Type: SMD; Category: Ceramic; Dielectric: X7R; Supplier 1: Digikey; Supplier Part Number 1: 1276-1006-1-ND; Supplier 2: Arrow; Supplier Part Number 2: CL10B104KA8NNNC**MULT1
footprint C0603_MD (Chip Capacitor, Body 1.6x0.8mm, IPC Medium Density)
pins: 1, 2

## CL10B104MB8NNNC
designator C?  value 0.1uF  Voltage: 50V  (hidden comment: CL10B104MB8NNNC)
CAP CER 0.1UF 50V X7R 0603; Manufacturer: Samsung Electro-Mechanics America, Inc.; Mount Type: SMD; Category: Ceramic; Dielectric: X7R; Supplier 1: Digi-Key; Supplier Part Number 1: 1276-1941-1-ND; Supplier 2: Arrow; Supplier Part Number 2: Kjzk4c3iaGHKgu91OSCceSDVbUWFj7k3fFXuGJFKbeQZVywxIBNyoAQstvnyfZZ0
footprint C0603_MD (Chip Capacitor, Body 1.6x0.8mm, IPC Medium Density)
pins: 1, 2

## CL10B105MO8NNWC
designator C?  value 1uF  Voltage: 16V  (hidden comment: CL10B105MO8NNWC)
CAP CER 1UF 16V X7R 0603; Manufacturer: Samsung Electro-Mechanics America, Inc.; Mount Type: SMD; Category: Ceramic; Dielectric: X7R; Supplier 1: Digi-Key; Supplier Part Number 1: 1276-6524-1-ND
footprint C0603_MD (Chip Capacitor, Body 1.6x0.8mm, IPC Medium Density)
pins: 1, 2

## CL10B153KB8SFNC
designator C?  value 15nF  Voltage: 50V  (hidden comment: CL10B153KB8SFNC)
CAP CER 0.015UF 50V 10% X7R 0603; Manufacturer: Samsung Electro-Mechanics America, Inc; Mount Type: SMD; Category: Ceramic; Dielectric: X7R; Supplier 1: Digi-Key; Supplier Part Number 1: 1276-1967-1-ND
footprint C0603_MD (Chip Capacitor, Body 1.6x0.8mm, IPC Medium Density)
pins: 1, 2

## CL10B222KB8WPNC
designator C?  value 2200pF  Voltage: 50V  (hidden comment: CL10B222KB8WPNC)
CAP CER 2200PF 50V X7R 0603; Manufacturer: Samsung Electro-Mechanics America, Inc.; Mount Type: SMD; Category: Ceramic; Dielectric: X7R; Supplier 1: Digi-Key; Supplier Part Number 1: 1276-6530-1-ND; Supplier 2: Avnet; Supplier Part Number 2: CL10B222KB8WPNC
footprint C0603_MD (Chip Capacitor, Body 1.6x0.8mm, IPC Medium Density)
pins: 1, 2

## CL10B223KB8NNNC
designator C?  value 0.022uF  Voltage: 50V  (hidden comment: CL10B223KB8NNNC)
CAP CER 0.022UF 50V X7R 0603; Manufacturer: Samsung Electro-Mechanics America, Inc.; Mount Type: SMD; Category: Ceramic; Dielectric: X7R; Supplier 1: Arrow; Supplier Part Number 1: CL10B223KB8NNNC**MULT1; Supplier 2: Digi-Key; Supplier Part Number 2: 1276-1104-1-ND
footprint C0603_MD (Chip Capacitor, Body 1.6x0.8mm, IPC Medium Density)
pins: 1, 2

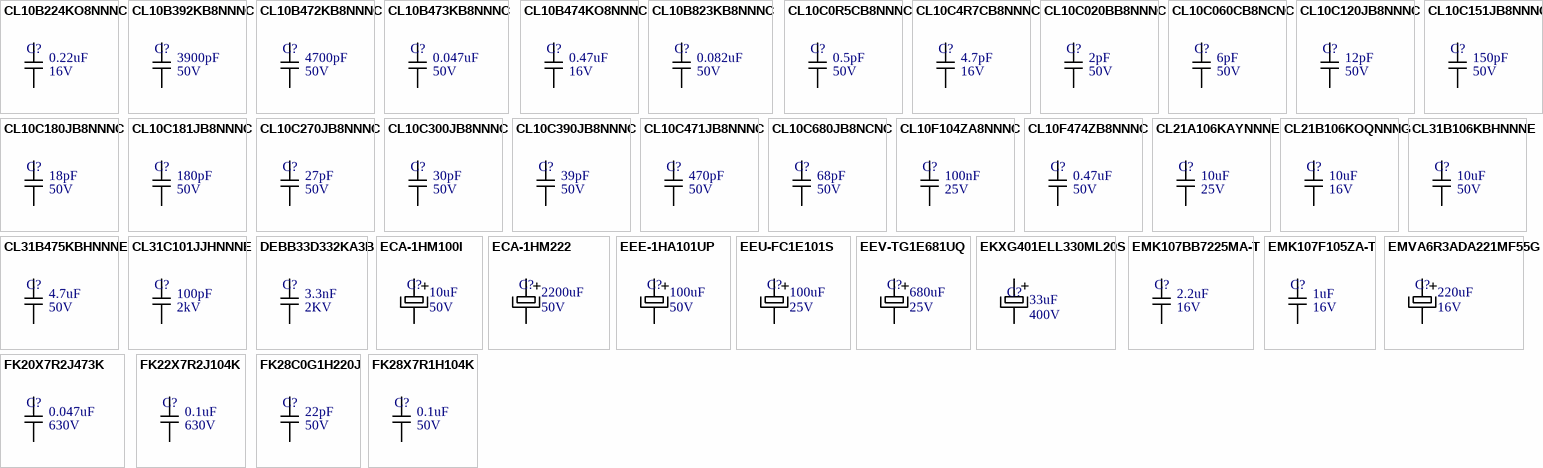
[diagram p2: symbols CL10B224KO8NNNC to FK28X7R1H104K]

## CL10B224KO8NNNC
designator C?  value 0.22uF  Voltage: 16V  (hidden comment: CL10B224KO8NNNC)
CAP CER 0.22UF 16V 10% X7R 0603; Manufacturer: Samsung Electro-Mechanics America, Inc; Mount Type: SMD; Category: Ceramic; Dielectric: *; Supplier 1: Digi-Key; Supplier Part Number 1: 1276-1112-1-ND
footprint C0603_MD (Chip Capacitor, Body 1.6x0.8mm, IPC Medium Density)
pins: 1, 2

## CL10B392KB8NNNC
designator C?  value 3900pF  Voltage: 50V  (hidden comment: CL10B392KB8NNNC)
CAP CER 3900PF 50V X7R 0603; Manufacturer: Samsung Electro-Mechanics America, Inc.; Mount Type: SMD; Category: Ceramic; Dielectric: X7R; Supplier 1: Arrow; Supplier Part Number 1: CL10B392KB8NNNC**MULT1; Supplier 2: Digikey; Supplier Part Number 2: 1276-2051-1-ND
footprint C0603_MD (Chip Capacitor, Body 1.6x0.8mm, IPC Medium Density)
pins: 1, 2

## CL10B472KB8NNNC
designator C?  value 4700pF  Voltage: 50V  (hidden comment: CL10B472KB8NNNC)
CAP CER 4700PF 50V X7R 0603; Manufacturer: Samsung Electro-Mechanics America, Inc.; Mount Type: SMD; Category: Ceramic; Dielectric: X7R; Supplier 1: Arrow; Supplier Part Number 1: CL10B472KB8NNNC**MULT1; Supplier 2: Digi-Key; Supplier Part Number 2: 1276-1098-1-ND
footprint C0603_MD (Chip Capacitor, Body 1.6x0.8mm, IPC Medium Density)
pins: 1, 2

## CL10B473KB8NNNC
designator C?  value 0.047uF  Voltage: 50V  (hidden comment: CL10B473KB8NNNC)
CAP CER 0.047UF 50V X7R 0603; Manufacturer: Samsung Electro-Mechanics; Mount Type: SMD; Category: Ceramic; Dielectric: X7R; Supplier 1: Digi-Key; Supplier Part Number 1: 1276-1063-1-ND
footprint C0603_MD (Chip Capacitor, Body 1.6x0.8mm, IPC Medium Density)
pins: 1, 2

## CL10B474KO8NNNC
designator C?  value 0.47uF  Voltage: 16V  (hidden comment: CL10B474KO8NNNC)
CAP CER 0.47UF 16V X7R 0603; Manufacturer: Samsung Electro-Mechanics America, Inc.; Mount Type: SMD; Category: Ceramic; Dielectric: X7R; Supplier 1: Digi-Key; Supplier Part Number 1: 1276-1062-1-ND; Supplier 2: Arrow; Supplier Part Number 2: vyANmGZMAsXsb9ucUsdgAYI9piIQPQ_vO_TcKVAcvH4ZVywxIBNyoAQstvnyfZZ0
footprint C0603_MD (Chip Capacitor, Body 1.6x0.8mm, IPC Medium Density)
pins: 1, 2

## CL10B823KB8NNNC
designator C?  value 0.082uF  Voltage: 50V  (hidden comment: CL10B823KB8NNNC)
CAP CER 0.082UF 50V X7R 0603; Manufacturer: Samsung Electro-Mechanics America, Inc.; Mount Type: SMD; Category: Ceramic; Dielectric: X7R; Supplier 1: Avnet; Supplier Part Number 1: CL10B823KB8NNNC; Supplier 2: Digi-Key; Supplier Part Number 2: 1276-2122-1-ND
footprint C0603_MD (Chip Capacitor, Body 1.6x0.8mm, IPC Medium Density)
pins: 1, 2

## CL10C0R5CB8NNNC
designator C?  value 0.5pF  Voltage: 50V  (hidden comment: CL10C0R5CB8NNNC)
CAP CER 0.5PF 50V NP0 0603; Manufacturer: Samsung Electro-Mechanics America, Inc; Mount Type: SMD; Category: Ceramic; Dielectric: NP0; Supplier 1: Digi-Key; Supplier Part Number 1: 1276-2147-1-ND
footprint C0603_MD (Chip Capacitor, Body 1.6x0.8mm, IPC Medium Density)
pins: 1, 2

## CL10C4R7CB8NNNC
designator C?  value 4.7pF  Voltage: 16V  (hidden comment: CL10C4R7CB8NNNC)
CAP CER 4.7PF 50V NP0 0603; Manufacturer: Samsung Electro-Mechanics America, Inc; Mount Type: SMD; Category: Ceramic; Dielectric: *; Supplier 1: Digi-Key; Supplier Part Number 1: 1276-1282-1-ND
footprint C0603_MD (Chip Capacitor, Body 1.6x0.8mm, IPC Medium Density)
pins: 1, 2

## CL10C020BB8NNNC
designator C?  value 2pF  Voltage: 50V  (hidden comment: CL10C020BB8NNNC)
CAP CER 2PF 50V NP0 0603; Manufacturer: Samsung Electro-Mechanics America, Inc; Mount Type: SMD; Category: Ceramic; Dielectric: NP0; Supplier 1: Digi-Key; Supplier Part Number 1: 1276-1815-1-ND
footprint C0603_MD (Chip Capacitor, Body 1.6x0.8mm, IPC Medium Density)
pins: 1, 2

## CL10C060CB8NCNC
designator C?  value 6pF  Voltage: 50V  (hidden comment: CL10C060CB8NCNC)
CAP CER 6PF 50V C0G/NP0 0603; Manufacturer: Samsung Electro-Mechanics America, Inc.; Mount Type: SMD; Category: Ceramic; Dielectric: C0G/NP0; Supplier 1: Digi-Key; Supplier Part Number 1: 1276-2132-1-ND; Supplier 2: Avnet; Supplier Part Number 2: CL10C060CB8NCNC
footprint C0603_MD (Chip Capacitor, Body 1.6x0.8mm, IPC Medium Density)
pins: 1, 2

## CL10C120JB8NNNC
designator C?  value 12pF  Voltage: 50V  (hidden comment: CL10C120JB8NNNC)
CAP CER 12PF 50V 5% NP0 0603; Manufacturer: Samsung Electro-Mechanics America, Inc; Mount Type: SMD; Category: Ceramic; Dielectric: NP0; Supplier 1: Digi-Key; Supplier Part Number 1: 1276-1254-1-ND
footprint C0603_MD (Chip Capacitor, Body 1.6x0.8mm, IPC Medium Density)
pins: 1, 2

## CL10C151JB8NNNC
designator C?  value 150pF  Voltage: 50V  (hidden comment: CL10C151JB8NNNC)
CAP CER 150PF 50V C0G/NP0 0603; Manufacturer: Samsung Electro-Mechanics America, Inc.; Dielectric: C0G; Mount Type: SMD; Category: Ceramic; Supplier 1: Digi-Key; Supplier Part Number 1: 1276-1280-1-ND
footprint C0603_MD (Chip Capacitor, Body 1.6x0.8mm, IPC Medium Density)
pins: 1, 2

## CL10C180JB8NNNC
designator C?  value 18pF  Voltage: 50V  (hidden comment: CL10C180JB8NNNC)
CAP CER 18PF 50V C0G/NP0 0603; Manufacturer: Samsung Electro-Mechanics America, Inc.; Dielectric: C0G; Mount Type: SMD; Category: Ceramic; Supplier 1: Digikey; Supplier Part Number 1: 1276-1089-1-ND; Supplier 2: Arrow; Supplier Part Number 2: CL10C180JB8NNNC**MULT1
footprint C0603_MD (Chip Capacitor, Body 1.6x0.8mm, IPC Medium Density)
pins: 1, 2

## CL10C181JB8NNNC
designator C?  value 180pF  Voltage: 50V  (hidden comment: CL10C181JB8NNNC)
CAP CER 180PF 50V C0G/NP0 0603; Manufacturer: Samsung Electro-Mechanics America, Inc.; Mount Type: SMD; Category: Ceramic; Dielectric: C0G/NP0; Supplier 1: Digi-Key; Supplier Part Number 1: 1276-1255-1-ND; Supplier 2: Avnet; Supplier Part Number 2: CL10C181JB8NNNC
footprint C0603_MD (Chip Capacitor, Body 1.6x0.8mm, IPC Medium Density)
pins: 1, 2

## CL10C270JB8NNNC
designator C?  value 27pF  Voltage: 50V  (hidden comment: CL10C270JB8NNNC)
CAP CER 27PF 50V 5% NP0 0603; Manufacturer: Samsung Electro-Mechanics America, Inc; Mount Type: SMD; Category: Ceramic; Dielectric: NP0; Supplier 1: Newark; Supplier 2: Farnell; Supplier 3: Digi-Key; Supplier Part Number 1: 90R7646; Supplier Part Number 2: 2280864; Supplier Part Number 3: 1276-1086-1-ND
footprint C0603_MD (Chip Capacitor, Body 1.6x0.8mm, IPC Medium Density)
pins: 1, 2

## CL10C300JB8NNNC
designator C?  value 30pF  Voltage: 50V  (hidden comment: CL10C300JB8NNNC)
CAP CER 30PF 50V C0G/NP0 0603; Manufacturer: Samsung Electro-Mechanics America, Inc.; Dielectric: C0G; Mount Type: SMD; Category: Ceramic; Supplier 1: Avnet; Supplier Part Number 1: CL10C300JB8NNNC; Supplier 2: Arrow; Supplier Part Number 2: CL10C300JB8NNNC**MULT1; Supplier 3: Digi-Key; Supplier Part Number 3: 1276-1021-1-ND
footprint C0603_MD (Chip Capacitor, Body 1.6x0.8mm, IPC Medium Density)
pins: 1, 2

## CL10C390JB8NNNC
designator C?  value 39pF  Voltage: 50V  (hidden comment: CL10C390JB8NNNC)
CAP CER 39PF 50V 5% NP0 0603; Manufacturer: Samsung Electro-Mechanics America, Inc; Mount Type: SMD; Category: Ceramic; Dielectric: NP0; Supplier 1: Digi-Key; Supplier Part Number 1: 1276-1087-1-ND
footprint C0603_MD (Chip Capacitor, Body 1.6x0.8mm, IPC Medium Density)
pins: 1, 2

## CL10C471JB8NNNC
designator C?  value 470pF  Voltage: 50V  (hidden comment: CL10C471JB8NNNC)
CAP CER 470PF 50V C0G/NP0 0603; Manufacturer: Samsung Electro-Mechanics America, Inc.; Dielectric: C0G; Mount Type: SMD; Category: Ceramic; Supplier 1: Arrow; Supplier Part Number 1: CL10C471JB8NNNC**MULT1; Supplier 2: Digi-Key; Supplier Part Number 2: 1276-1168-1-ND
footprint C0603_MD (Chip Capacitor, Body 1.6x0.8mm, IPC Medium Density)
pins: 1, 2

## CL10C680JB8NCNC
designator C?  value 68pF  Voltage: 50V  (hidden comment: CL10C680JB8NCNC)
CAP CER 68PF 50V C0G/NP0 0603; Manufacturer: Samsung Electro-Mechanics America, Inc.; Dielectric: C0G; Mount Type: SMD; Category: Ceramic; Supplier 1: Digi-Key; Supplier Part Number 1: 1276-2324-1-ND
footprint C0603_MD (Chip Capacitor, Body 1.6x0.8mm, IPC Medium Density)
pins: 1, 2

## CL10F104ZA8NNNC
designator C?  value 100nF  Voltage: 25V  (hidden comment: CL10F104ZA8NNNC)
CAP CER 0.1UF 25V Y5V 0603; Manufacturer: Samsung  Electro-Mechanics America. Inc; Mount Type: SMD; Category: Ceramic; Dielectric: *; Supplier 1: Digi-Key; Supplier Part Number 1: 1276-1011-1-ND
footprint C0603_MD (Chip Capacitor, Body 1.6x0.8mm, IPC Medium Density)
pins: 1, 2

## CL10F474ZB8NNNC
designator C?  value 0.47uF  Voltage: 50V  (hidden comment: CL10F474ZB8NNNC)
CAP CER 0.47UF 50V Y5V 0603; Manufacturer: Samsung Electro-Mechanics America, Inc; Dielectric: Y5R; Mount Type: SMD; Category: Ceramic; Supplier 1: Digi-Key; Supplier Part Number 1: 1276-2377-1-ND
footprint C0603_MD (Chip Capacitor, Body 1.6x0.8mm, IPC Medium Density)
pins: 1, 2

## CL21A106KAYNNNE
designator C?  value 10uF  Voltage: 25V  (hidden comment: CL21A106KAYNNNE)
CAP CER 10UF 25V 10% X5R 0805; Manufacturer: Samsung Electro-Mechanics America, Inc; Mount Type: SMD; Category: Ceramic; Dielectric: X5R; Supplier 1: Digi-Key; Supplier Part Number 1: 1276-2891-1-ND
footprint C0805_MD (Chip Capacitor, Body 2.0x1.3mm, IPC Medium Density)
pins: 1, 2

## CL21B106KOQNNNG
designator C?  value 10uF  Voltage: 16V  (hidden comment: CL21B106KOQNNNG)
CAP CER 10UF 16V X7R 0805; Manufacturer: Samsung Electro-Mechanics America, Inc.; Mount Type: SMD; Category: Ceramic; Dielectric: X7R; Supplier 1: Avnet; Supplier Part Number 1: CL21B106KOQNNNG; Supplier 2: Digi-Key; Supplier Part Number 2: 1276-6472-1-ND
footprint C0805_MD (Chip Capacitor, Body 2.0x1.3mm, IPC Medium Density)
pins: 1, 2

## CL31B106KBHNNNE
designator C?  value 10uF  Voltage: 50V  (hidden comment: CL31B106KBHNNNE)
CAP CER 10UF 50V X7R 1206; Manufacturer: Samsung Electro-Mechanics America, Inc.; Mount Type: SMD; Category: Ceramic; Dielectric: X7R; Supplier 1: Avnet; Supplier Part Number 1: CL31B106KBHNNNE; Supplier 2: Digi-Key; Supplier Part Number 2: 1276-6767-1-ND
footprint C1206_MD (Chip Capacitor, Body 3.2x1.6mm, IPC Medium Density)
pins: 1, 2

## CL31B475KBHNNNE
designator C?  value 4.7uF  Voltage: 50V  (hidden comment: CL31B475KBHNNNE)
CAP CER 4.7UF 50V X7R 1206; Manufacturer: Samsung Electro-Mechanics America, Inc.; Mount Type: SMD; Category: Ceramic; Dielectric: X7R; Supplier 1: Avnet; Supplier Part Number 1: CL31B475KBHNNNE/BKN; Supplier 2: Digi-Key; Supplier Part Number 2: 1276-2789-1-ND
footprint C1206_MD (Chip Capacitor, Body 3.2x1.6mm, IPC Medium Density)
pins: 1, 2

## CL31C101JJHNNNE
designator C?  value 100pF  Voltage: 2kV  (hidden comment: CL31C101JJHNNNE)
CAP CER 100PF 2KV C0G/NP0 1206; Manufacturer: Samsung Electro-Mechanics America, Inc.; Dielectric: C0G; Mount Type: SMD; Category: Ceramic; Supplier 1: Digikey; Supplier Part Number 1: 1276-3201-1-ND; Supplier 2: Arrow; Supplier Part Number 2: CL31C101JJHNNNE
footprint C1206_MD (Chip Capacitor, Body 3.2x1.6mm, IPC Medium Density)
pins: 1, 2

## DEBB33D332KA3B
designator C?  value 3.3nF  Voltage: 2KV  (hidden comment: DEBB33D332KA3B)
CAP CER 3300PF 2KV RADIAL; Manufacturer: Murata Electronics North America; Mount Type: PTH; Category: Ceramic; Dielectric: *; Supplier 1: Mouser; Supplier 2: Digi-Key; Supplier Part Number 1: 81-DEBB33D332KA3B; Supplier Part Number 2: 490-4276-ND
footprint CAP_CER_NP 0.2IN (Capacitor PTH)
pins: 1, 2

## ECA-1HM100I
designator C?  value 10uF  Voltage: 50V  (hidden comment: ECA-1HM100I)
CAP ALUM 10UF 20% 50V RADIAL; Manufacturer: Panasonic Electronic Components; Mount Type: PTH; Category: Aluminum; Supplier 1: Farnell; Supplier Part Number 1: 2282220; Supplier 2: Digi-Key; Supplier Part Number 2: P10425TB-ND; Supplier 3: Newark; Supplier Part Number 3: 48W7714; Supplier 4: Mouser; Supplier Part Number 4: 667-ECA-1HM100I
footprint CAP_EL_2.0x5.0MM (Capacitor Eletrolítico PTH)
pins: +, -

## ECA-1HM222
designator C?  value 2200uF  Voltage: 50V  (hidden comment: ECA-1HM222)
2200µF 50V Aluminum Capacitors Radial, Can 2000 Hrs @ 85°C; Manufacturer: Panasonic Electronic Components; Mount Type: PTH; Category: Aluminum; Supplier 1: Digi-Key; Supplier Part Number 1: P5187-ND; Supplier 2: Newark; Supplier Part Number 2: 17T5013; Supplier 3: Farnell; Supplier Part Number 3: 1848511
footprint CAP_EL_7.5X16.0MM (Capacitor Eletrolítico PTH)
pins: +, -

## EEE-1HA101UP
designator C?  value 100uF  Voltage: 50V  (hidden comment: EEE-1HA101UP)
CAP ALUM 100UF 50V 20% SMD; Manufacturer: Panasonic Electronic Components; Mount Type: SMD; Category: Electrolytic; Supplier 1: Farnell; Supplier 2: Mouser; Supplier 3: Digi-Key; Supplier 4: Newark; Supplier 5: Allied; Supplier Part Number 1: 2284817; Supplier Part Number 2: 667-EEE-1HA101UP; Supplier Part Number 3: PCE3917CT-ND; Supplier Part Number 4: 53W3816; Supplier Part Number 5: 70257994
footprint CAP_EL_SMD_F (Capacitor Eletrolítico SMD Case F)
pins: +, -

## EEU-FC1E101S
designator C?  value 100uF  Voltage: 25V  (hidden comment: EEU-FC1E101S)
CAP ALUM 100UF 20% 25V RADIAL; Manufacturer: Panasonic Electronic Components; Mount Type: PTH; Category: Aluminum; Supplier 1: Farnell; Supplier 2: Digi-Key; Supplier 3: Newark; Supplier 4: Mouser; Supplier Part Number 1: 1848439; Supplier Part Number 2: P10269-ND; Supplier Part Number 3: 17T5085; Supplier Part Number 4: 667-EEU-FC1E101S
footprint CAP_EL_2.5X6.3MM (Capacitor Eletrolítico PTH)
pins: +, -

## EEV-TG1E681UQ
designator C?  value 680uF  Voltage: 25V  (hidden comment: EEV-TG1E681UQ)
CAP ALUM 680UF 25V 20% SMD; Manufacturer: Panasonic Electronic Components; Mount Type: SMD; Category: Aluminum; Supplier 1: Mouser; Supplier 2: Newark; Supplier 3: Farnell; Supplier 4: Digi-Key; Supplier Part Number 1: 667-EEV-TG1E681UQ; Supplier Part Number 2: 53W3920; Supplier Part Number 3: 2326384; Supplier Part Number 4: PCE3643CT-ND
footprint CAP_EL_SMD_H (Capacitor Eletrolítico SMD Case H)
pins: +, -

## EKXG401ELL330ML20S
designator C?  value 33uF  Voltage: 400V  (hidden comment: EKXG401ELL330ML20S)
CAP ALUM 33UF 20% 400V RADIAL; Manufacturer: United Chemi-Con; Category: Eletrolitical; Dieletric: *; Mount Type: PTH; Supplier 1: *; Supplier Part Number: *; Supplier 2: Digi-Key; Supplier Part Number 2: 565-1464-ND; Supplier 3: Farnell; Supplier Part Number 3: 1691111; Supplier 4: Mouser; Supplier Part Number 4: 661-EKXG401ELL330ML2
footprint CAP_EL_7.5X16.0MM (Capacitor Eletrolítico PTH)
pins: +, -

## EMK107BB7225MA-T
designator C?  value 2.2uF  Voltage: 16V  (hidden comment: EMK107BB7225MA-T)
CAP CER 2.2UF 16V X7R 0603; Manufacturer: Taiyo Yuden; Mount Type: SMD; Category: Ceramic; Dielectric: X7R; Supplier 1: Digi-Key; Supplier Part Number 1: 587-4864-1-ND; Supplier 2: Avnet; Supplier Part Number 2: EMK107BB7225MA-T; Supplier 3: Newark; Supplier Part Number 3: 16AC1148
footprint C0603_MD (Chip Capacitor, Body 1.6x0.8mm, IPC Medium Density)
pins: 1, 2